# EAGLE library part TQL9093 (library My_Library_SDR)
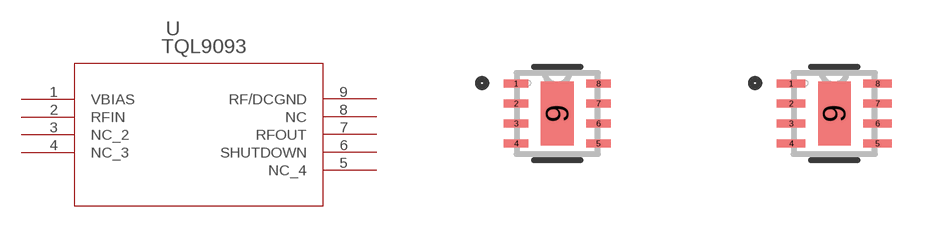
[diagram p3: symbol with the pads of DFN8_2X2_QOR; footprints DFN8_2X2_QOR, DFN8_2X2_QOR-M]

Designator prefix U

## TQL9093 (COPYRIGHT: Copyright (C) 2025 Ultra Librarian. All rights reserved.; MANUFACTURER_PART_NUMBER: TQL9093; MFR_NAME: Qorvo)  [DFN8_2X2_QOR]
1  VBIAS  pas
2  RFIN  in
3  NC_2  nc
4  NC_3  nc
5  NC_4  nc
6  SHUTDOWN  pas
7  RFOUT  out
8  NC  nc
9  RF/DCGND  pas

## TQL9093DFN8_2X2_QOR-M (COPYRIGHT: Copyright (C) 2025 Ultra Librarian. All rights reserved.; MANUFACTURER_PART_NUMBER: TQL9093; MFR_NAME: Qorvo)  [DFN8_2X2_QOR-M]
Pads as for DFN8_2X2_QOR

## TQL9093DFN8_2X2_QOR-L (COPYRIGHT: Copyright (C) 2025 Ultra Librarian. All rights reserved.; MANUFACTURER_PART_NUMBER: TQL9093; MFR_NAME: Qorvo)  [DFN8_2X2_QOR-L]
Pads as for DFN8_2X2_QOR

## Footprint DFN8_2X2_QOR (pad centres in mm)
smd 0.61 x 0.203: 1 -1.029,0.75; 2 -1.029,0.25; 3 -1.029,-0.25; 4 -1.029,-0.75; 5 1.029,-0.75; 6 1.029,-0.25; 7 1.029,0.25; 8 1.029,0.75
smd 0.813 x 1.6: 9 0,0

## Footprint DFN8_2X2_QOR-M (pad centres in mm)
smd 0.711 x 0.203: 1 -1.079,0.75; 2 -1.079,0.25; 3 -1.079,-0.25; 4 -1.079,-0.75; 5 1.079,-0.75; 6 1.079,-0.25; 7 1.079,0.25; 8 1.079,0.75
smd 0.813 x 1.6: 9 0,0

## Footprint DFN8_2X2_QOR-L (pad centres in mm)
smd 0.508 x 0.203: 1 -0.978,0.75; 2 -0.978,0.25; 3 -0.978,-0.25; 4 -0.978,-0.75; 5 0.978,-0.75; 6 0.978,-0.25; 7 0.978,0.25; 8 0.978,0.75
smd 0.813 x 1.6: 9 0,0